# Altium schematic symbol library force_sensors.SchLib: 1 symbol
Pins are listed as number, name and electrical type; pins without a type are passive.

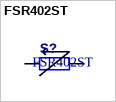
[diagram p0: symbol FSR402ST]

## FSR402ST
designator S?
Force Sensing Resistor Model 402 Short Tail; Published: 19-Feb-2006; ComponentLink1Description: datasheet; ComponentLink2Description: supplier
footprint FSR402ST
pins: 1, 2
2 alternate drawings of the same symbol